# EAGLE library part CAMERA-OV7670 (library p.peter-periphery)
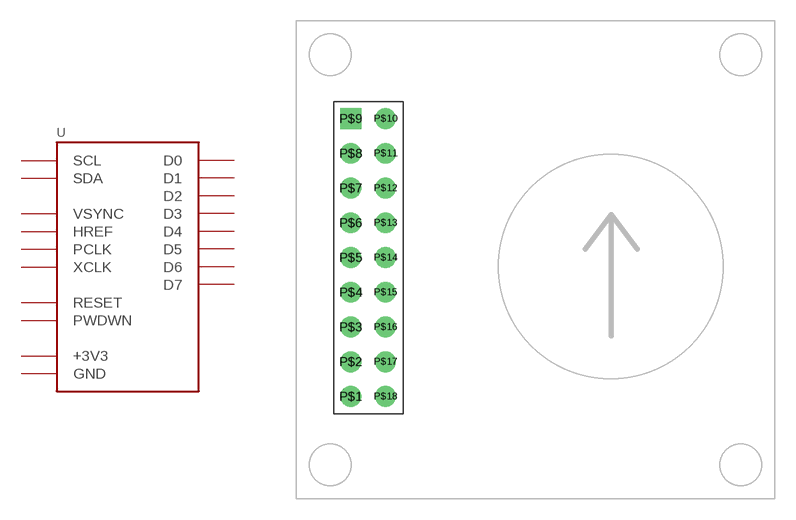
[diagram p2: symbol with the pads of CAMERA-OV7670-DIP; footprint CAMERA-OV7670-DIP]

Designator prefix -

## CAMERA-OV7670DIP  [CAMERA-OV7670-DIP]
P$1  RESET
P$2  D1
P$3  D3
P$4  D5
P$5  D7
P$6  PCLK
P$7  VSYNC
P$8  SCL
P$9  +3V3
P$10  GND
P$11  SDA
P$12  HREF
P$13  XCLK
P$14  D6
P$15  D4
P$16  D2
P$17  D0
P$18  PWDWN

## Footprint CAMERA-OV7670-DIP (pad centres in mm)
drill 1.016: P$1 -13.5,-10; P$2 -13.5,-7.46; P$3 -13.5,-4.92; P$4 -13.5,-2.38; P$5 -13.5,0.16; P$6 -13.5,2.7; P$7 -13.5,5.24; P$8 -13.5,7.78; P$10 -10.96,10.32; P$11 -10.96,7.78; P$12 -10.96,5.24; P$13 -10.96,2.7; P$14 -10.96,0.16; P$15 -10.96,-2.38; P$16 -10.96,-4.92; P$17 -10.96,-7.46; P$18 -10.96,-10
drill 1.016 square: P$9 -13.5,10.32